# Altium footprint library pcb名片.PcbLib: 5 footprints
Each footprint in its own frame and in the unit in brackets; x right, y up, seen from the top. Pads: shape width x height; smd on the part's side, far side on the other; paste and mask are expansions set on the pad; w line width, h text height; cw(c..) or ccw(c..) is an arc to the next point about the centre after c.
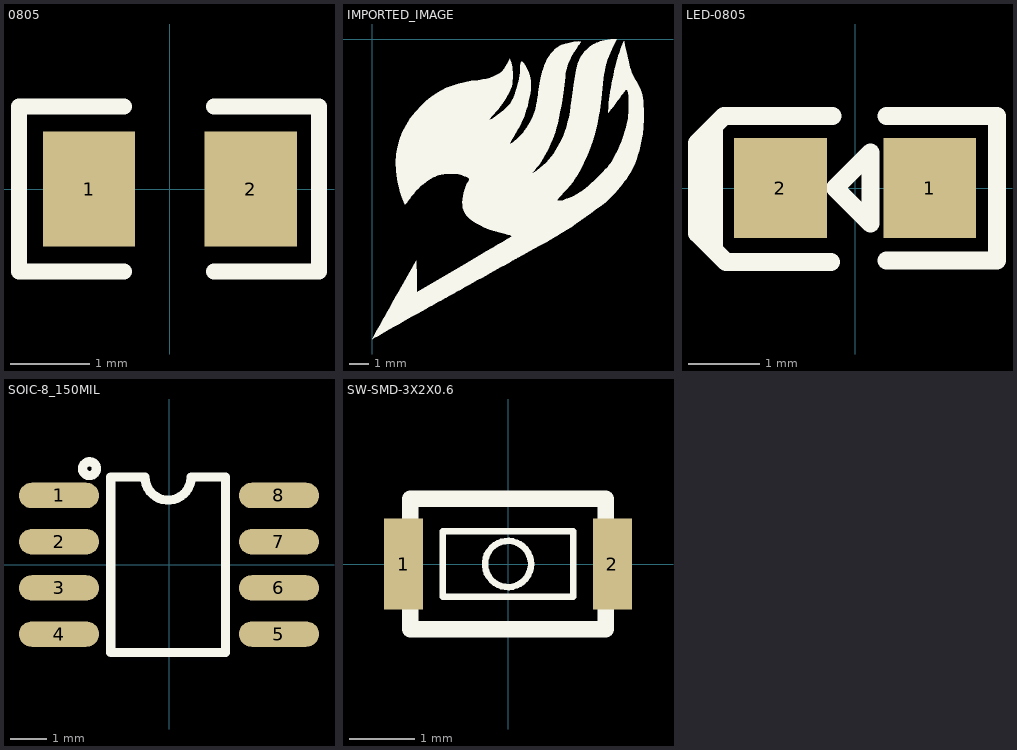
[diagram p0: the footprints below, top view; thin cyan lines are the x and y axes]

## 0805 [mm]
pads (2):
  rect 1.16x1.45 smd: 1(-1.016,0) 2(1.016,0)
Top Overlay:
  lines w0.2: -0.577,-1.035 -1.897,-1.035 -1.897,1.035 -0.577,1.035 ; 0.555,-1.035 1.875,-1.035 1.875,1.035 0.555,1.035

## IMPORTED_IMAGE [mm]
Top Overlay:
  drawing of 1 lines, arcs and shapes, not listed

## LED-0805 [mm]
pads (2):
  rect 1.3x1.4 smd: 1(1.05,0) 2(-1.05,0)
Top Overlay:
  lines w0.254: -1.982,-0.801 -1.982,0.799 ; -0.344,-1.043 -1.817,-1.043 -2.224,-0.636 -2.224,0.634 -1.843,1.015 -0.319,1.015 ; 0.443,-1.017 1.993,-1.017 1.993,1.015 0.443,1.015 ; -0.283,-0.001 0.217,0.499 ; -0.283,-0.001 -0.283,-0.001 ; -0.283,-0.001 0.217,-0.502 0.217,0.499 ; 0.217,0.499 0.217,0.499

## SOIC-8_150MIL [mm]
pads (8):
  oval 2.2x0.7 smd: 1(-3.023,1.905) 2(-3.023,0.635) 3(-3.023,-0.635) 4(-3.023,-1.905) 5(3.023,-1.905) 6(3.023,-0.635) 7(3.023,0.635) 8(3.023,1.905)
Top Overlay:
  circle w0.254: c-2.184,2.642 r0.191
  lines w0.254: -1.6,-2.413 -1.6,2.413 -0.66,2.413 ccw(c-0.025,2.413) 0.61,2.413 1.549,2.413 1.549,-2.413 -1.6,-2.413

## SW-SMD-3X2X0.6 [mm]
pads (2):
  rect 0.6x1.4 smd: 1(-1.6,0) 2(1.6,0)
Top Overlay:
  circle w0.1: c0,0 r0.354
  lines w0.102: -1,-0.5 1,-0.5 1,0.5 -1,0.5 -1,-0.5
  lines w0.254: -1.5,-1 1.5,-1 1.5,1 -1.5,1 -1.5,-1